# Altium schematic symbol library zynq_bottomSCHLIB.SchLib: 5 symbols
Pins are listed as number, name and electrical type; pins without a type are passive.

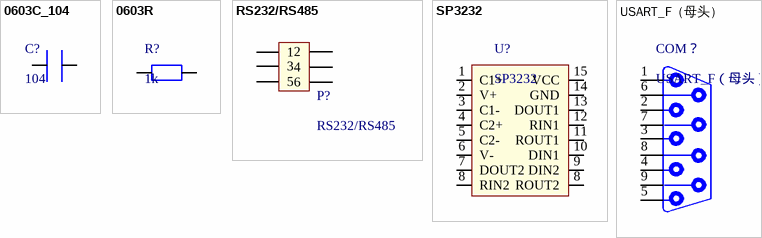
[diagram p0: symbols 0603C_104 to USART_F（母头）]

## 0603C_104
designator C?, comment 104
footprint 0603C (无极性电容)
pins: 1, 2

## 0603R
designator R?, comment 1k
pins: 1, 2

## RS232/RS485
designator P?
footprint HDR2.54-LI-2x3P
pins: 1, 2, 3, 4, 5, 6

## SP3232
designator U?
TSSOP16
footprint TSSOP16 (TSOP, 16-Leads, Body 5.00x4.39mm, Pitch 0.65mm, IPC Medium Density)
pins: 1 C1+, 2 V+, 3 C1-, 4 C2+, 5 C2-, 6 V-, 7 DOUT2, 8 RIN2, 8 ROUT2, 9 DIN2, 10 DIN1, 11 ROUT1, 12 RIN1, 13 DOUT1, 14 GND, 15 VCC

## USART_F（母头）
designator COM？
footprint DB9/S_A (9针母头串口,31*18.5*12.5mm)
pins: 1, 2, 3, 4, 5, 6, 7, 8, 9